# Altium footprint library Andy_Parts.PcbLib: 121 footprints (part 6 of 8)
Each footprint in its own frame and in the unit in brackets; x right, y up, seen from the top. Pads: shape width x height; smd on the part's side, far side on the other; paste and mask are expansions set on the pad; w line width, h text height; cw(c..) or ccw(c..) is an arc to the next point about the centre after c.
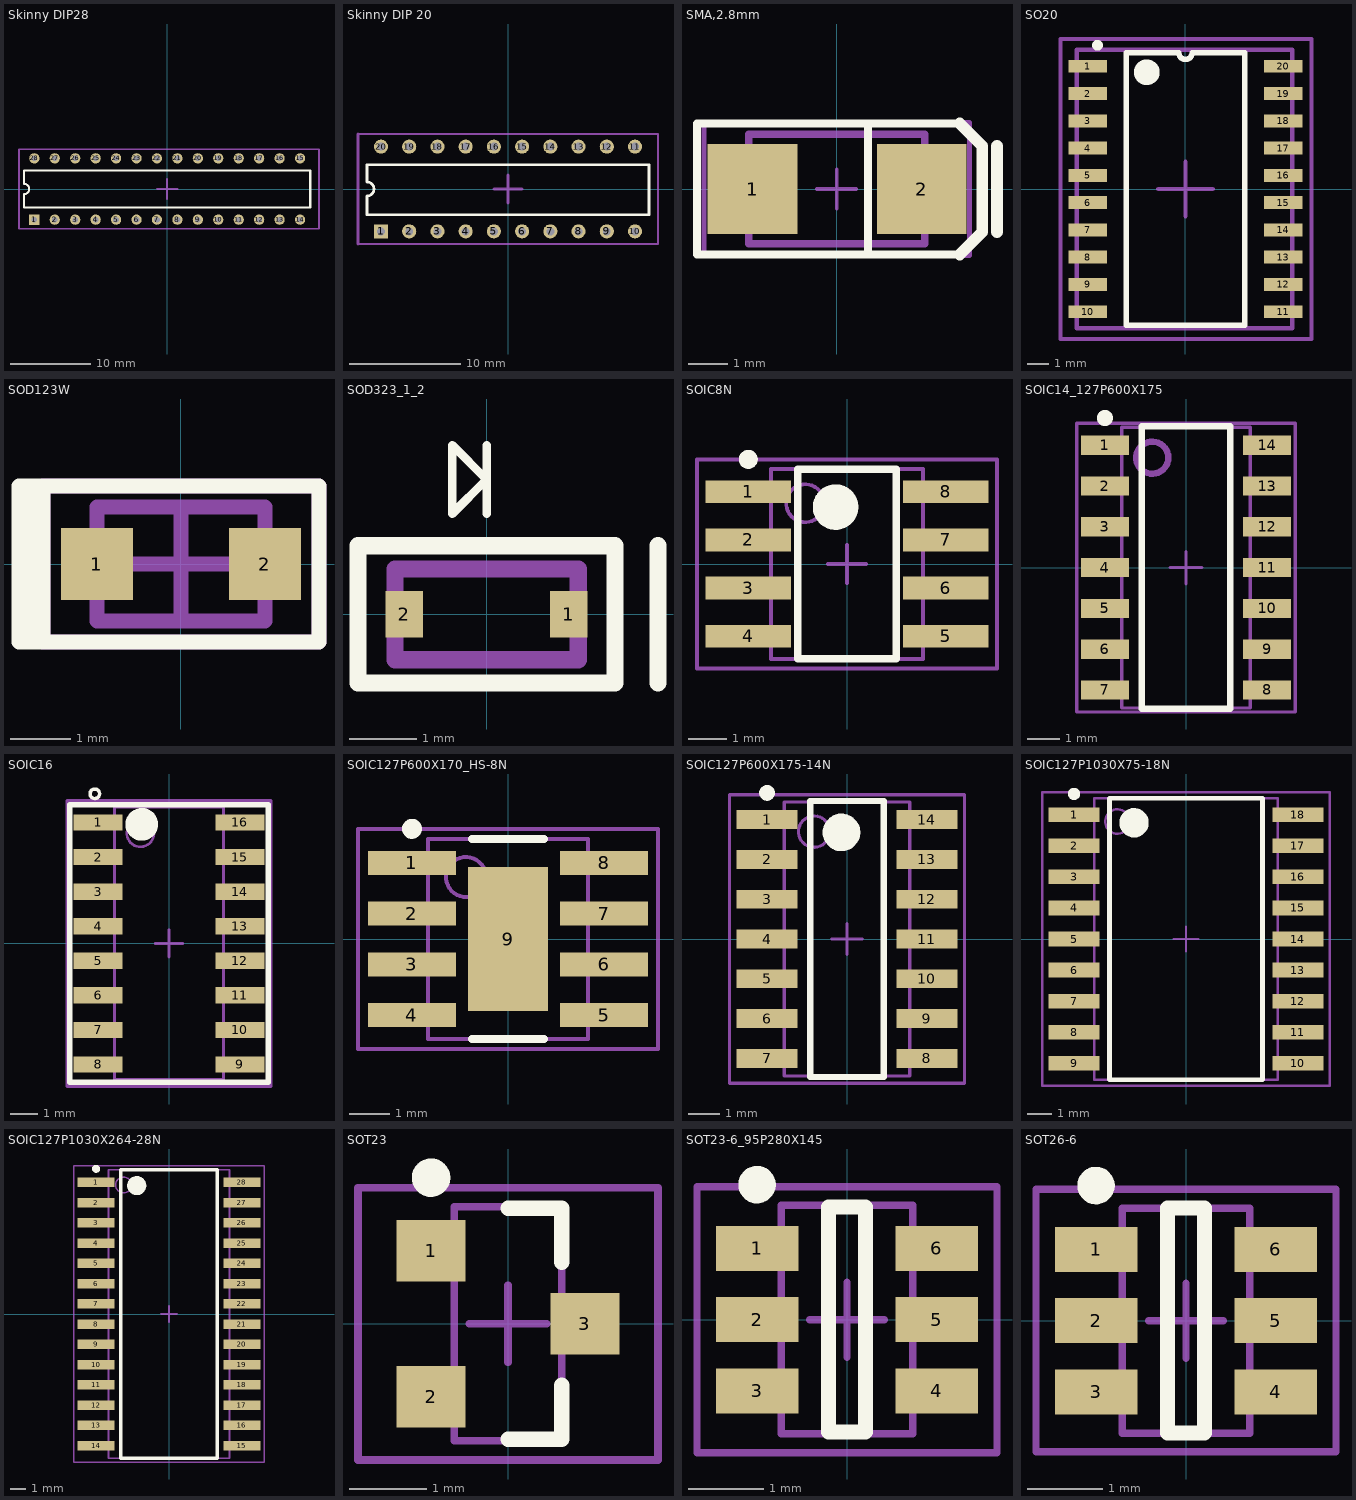
[diagram p5: the footprints below, top view; thin cyan lines are the x and y axes]

## Skinny DIP28 [mil] "Skinny DIP, 28 pins"
height 140
pads (28):
  rect 50x50 hole 28: 1(-650,-150)
  round 50 hole 28: 2(-550,-150) 3(-450,-150) 4(-350,-150) 5(-250,-150) 6(-150,-150) 7(-50,-150) 8(50,-150) 9(150,-150) 10(250,-150) 11(350,-150) 12(450,-150) 13(550,-150) 14(650,-150) 15(650,150) 16(550,150) 17(450,150) 18(350,150) 19(250,150) 20(150,150) 21(50,150) 22(-50,150) 23(-150,150) 24(-250,150) 25(-350,150) 26(-450,150) 27(-550,150) 28(-650,150)
Top Overlay:
  lines w10: -700,-90 -700,-25 ccw(c-700,0) -700,25 -700,90 700,90 700,-90 -700,-90
Mechanical 1:
  text ".Designator" at -95,-10 h25
Mechanical 15:
  lines w7.87: -725,-195 742.72,-195 742.72,195 -725,195 -725,-25 -725,-195
  lines w10: -50,0 0,0 ; 0,-50 0,0 ; 0,50 0,0 ; 50,0 0,0
3D body: height 140, standoff 15, extent -699.21,-89.96 700.39,90.16

## Skinny DIP 20 [mil] "Skinny DIP, 20 pins"
height 140
pads (20):
  rect 50x50 hole 28: 1(-450,-150)
  round 50 hole 28: 2(-350,-150) 3(-250,-150) 4(-150,-150) 5(-50,-150) 6(50,-150) 7(150,-150) 8(250,-150) 9(350,-150) 10(450,-150) 11(450,150) 12(350,150) 13(250,150) 14(150,150) 15(50,150) 16(-50,150) 17(-150,150) 18(-250,150) 19(-350,150) 20(-450,150)
Top Overlay:
  lines w10: -500,-90.94 500,-90.94 500,86.22 -500,86.22 -500,25 cw(c-500,0) -500,-25 -500,-90.94
Mechanical 1:
  text ".Designator" at -52.87,-12.36 h25
Mechanical 15:
  lines w7.87: -531.5,-195 531.5,-195 531.5,195 -531.5,195
  lines w10: -531.5,-195 -531.5,195 ; -50,0 0,0 ; 0,-50 0,0 ; 0,50 0,0 ; 50,0 0,0
3D body: height 140, standoff 15, extent -499.61,-92.32 494.88,87.8

## SMA,2.8mm [mm] "DO-214AC/SMA"
height 2.3
pads (2):
  rect 2.3x2.3 smd: 1(-2.15,0) 2(2.175,0)
Top Overlay:
  lines w0.2: 0.8,-1.675 0.8,1.675 ; 3.15,-1.675 -3.575,-1.675 -3.575,1.675 3.15,1.675
  lines w0.3: 3.15,-1.675 3.725,-1.1 3.725,1.1 3.15,1.675 ; 4.1,-1.1 4.1,1.1
Mechanical 1:
  text ".Designator" at 0,0 h0.64
Mechanical 13:
  lines w0.15: -2.25,-0.85 -2.8,-0.85 -2.8,0.85 -2.25,0.85 ; 2.25,-0.85 2.8,-0.85 2.8,0.85 2.25,0.85 ; 2.25,-0.5 cw(c2.25,0) 2.25,0.5 2.25,-0.5
  lines w0.2: 0.8,-1.4 0.8,1.4 ; 2.249,-1.4 -2.25,-1.4 -2.25,1.4 2.249,1.4 ; 2.25,-1.399 2.25,-0.5 ; 2.25,0.5 2.25,1.399
Mechanical 15:
  lines w0.1: -0.5,0 0.5,0 ; 0,-0.5 0,0.5
  lines w0.127: -3.4,-1.7 -3.4,1.7 3.4,1.7 3.4,-1.7 -3.4,-1.7
3D body: height 2.39, standoff -0.02, extent -2.6,-1.3 2.6,1.3

## SO20 [mm] "300 mil wide SOIC, 20 pins"
height 2.718
pads (20):
  rect 1.8x0.6 smd: 1(-4.547,5.715) 2(-4.547,4.445) 3(-4.547,3.175) 4(-4.547,1.905) 5(-4.547,0.635) 6(-4.547,-0.635) 7(-4.547,-1.905) 8(-4.547,-3.175) 9(-4.547,-4.445) 10(-4.547,-5.715) 11(4.548,-5.715) 12(4.548,-4.445) 13(4.548,-3.175) 14(4.548,-1.905) 15(4.548,-0.635) 16(4.548,0.635) 17(4.548,1.905) 18(4.548,3.175) 19(4.548,4.445) 20(4.548,5.715)
Top Overlay:
  circle w0.6: c-1.799,5.437 r0.3
  circle w0.25: c-4.099,6.692 r0.125
  lines w0.254: -2.759,-6.35 2.759,-6.35 2.759,6.35 0.318,6.35 cw(c0,6.35) -0.318,6.35 -2.759,6.35 -2.759,-6.35
Mechanical 1:
  text ".Designator" at 0.254,-2.159 h0.64
Mechanical 13:
  lines w0.203: -5.055,-6.477 4.978,-6.477 4.978,5.842 4.978,6.477 -5.055,6.477 -5.055,-6.477
Mechanical 15:
  lines w0.203: -1.27,0 0,0 ; 0,-1.27 0,0 ; 0,1.27 0,0 ; 1.27,0 0,0 ; -5.817,-6.985 -5.817,6.985 5.867,6.985 5.867,4.699 5.867,-6.985 -1.499,-6.985 -5.817,-6.985
3D body: height 2.72, standoff 0.3, extent -5.055,-6.477 4.978,6.477

## SOD123W [mm] "Diode SOD123, Gull-wing"
height 1.1
pads (2):
  rect 1.2x1.2 smd: 1(-1.4,0) 2(1.4,0)
Top Overlay:
  lines w0.254: -2.5,-1.3 -2.5,1.3 ; -2.5,-1.3 -2.3,-1.3 ; -2.5,-1.3 -2.7,-1.3 -2.7,1.3 -2.5,1.3 ; -2.5,1.3 -2.3,1.3 ; -2.3,-1.3 0,-1.3 2.3,-1.3 2.3,1.3 0,1.3 -2.3,1.3 ; -2.3,-1.3 -2.3,1.3
Mechanical 1:
  text ".Designator" at -0.9,-0.3 h0.7
Mechanical 13:
  lines w0.254: -1.4,-0.95 -1.4,0.95 1.4,0.95 1.4,-0.95 -1.4,-0.95
Mechanical 15:
  lines w0.254: -0.95,0 0.95,0 ; 0,-0.95 0,0.95 ; -2.3,-1.3 -2.3,0.5 -2.3,1.3 2.3,1.3 2.3,-1.3 -2.3,-1.3
3D body: height 1.1, standoff 0, extent -1.4,-0.95 1.4,0.95

## SOD323_1_2 [mil] "SOD-323"
height 45
pads (2):
  rect 22x27 smd: 1(48,0) 2(-48,0)
Top Overlay:
  lines w5: 0,58.74 0,98.74 ; -20,58.74 0,78.74 -20,98.74 -20,58.74
  lines w10: 100,-40 100,40 ; -75,-40 75,-40 75,40 -75,40 -75,-40
Mechanical 1:
  text ".Designator" at -60,-10 h25
Mechanical 15:
  lines w10: -53.5,-26.5 53.5,-26.5 53.5,26.5 -53.5,26.5 -53.5,-26.5
3D body: height 45, standoff 6, extent -55,-25 55,25

## SOIC8N [mm] "SOIC, 8-Leads, Body 5.0x4.0mm (max), Pitch 1.27mm, IPC Medium Density"
height 1.75
pads (8):
  rect 2.25x0.6 smd: 1(-2.6,1.905) 2(-2.6,0.635) 3(-2.6,-0.635) 4(-2.6,-1.905) 5(2.6,-1.905) 6(2.6,-0.635) 7(2.6,0.635) 8(2.6,1.905)
Top Overlay:
  circle w0.6: c-0.3,1.5 r0.3
  circle w0.25: c-2.6,2.755 r0.125
  lines w0.2: -1.3,-2.5 1.3,-2.5 1.3,2.5 -1.3,2.5 -1.3,-2.5
Mechanical 1:
  text ".Designator" at 0.2,-2.35 h0.64
Mechanical 13:
  circle w0.1: c-1.1,1.6 r0.5
  lines w0.1: -2,-2.5 2,-2.5 2,2.5 -2,2.5 -2,-2.5
Mechanical 15:
  lines w0.1: -0.5,0 0.5,0 ; 0,-0.5 0,0.5 ; -3.95,-2.75 3.95,-2.75 3.95,2.75 -3.95,2.75 -3.95,-2.75
3D body: height 1.75, standoff 0.25, extent -2,-2.5 2,2.5

## SOIC14_127P600X175 [mm] "SOIC, 14-Leads, Body 8.8x4.0mm (max), Pitch 1.27mm, IPC High Density"
height 1.75
pads (14):
  rect 1.5x0.6 smd: 1(-2.525,3.81) 2(-2.525,2.54) 3(-2.525,1.27) 4(-2.525,0) 5(-2.525,-1.27) 6(-2.525,-2.54) 7(-2.525,-3.81) 8(2.525,-3.81) 9(2.525,-2.54) 10(2.525,-1.27) 11(2.525,0) 12(2.525,1.27) 13(2.525,2.54) 14(2.525,3.81)
Top Overlay:
  circle w0.25: c-2.525,4.66 r0.125
  lines w0.2: -1.375,-4.4 1.375,-4.4 1.375,4.4 -1.375,4.4 -1.375,-4.4
Mechanical 1:
  text ".Designator" at 0,0 h1.27
Mechanical 13:
  circle w0.2: c-1.05,3.425 r0.5
  lines w0.1: -2,-4.375 2,-4.375 2,4.375 -2,4.375 -2,-4.375
Mechanical 15:
  lines w0.1: -0.5,0 0.5,0 ; 0,-0.5 0,0.5 ; -3.4,-4.5 3.4,-4.5 3.4,4.5 -3.4,4.5 -3.4,-4.5
3D body: height 1.75, standoff 0, extent -2.9,-4.275 2.9,4.275

## SOIC16 [mm] "SOIC, 16-Leads, Body 10.0x4.0mm (max), Pitch 1.27mm, IPC Medium Density"
height 1.75
pads (16):
  rect 1.8x0.6 smd: 1(-2.6,4.445) 2(-2.6,3.175) 3(-2.6,1.905) 4(-2.6,0.635) 5(-2.6,-0.635) 6(-2.6,-1.905) 7(-2.6,-3.175) 8(-2.6,-4.445) 9(2.6,-4.445) 10(2.6,-3.175) 11(2.6,-1.905) 12(2.6,-0.635) 13(2.6,0.635) 14(2.6,1.905) 15(2.6,3.175) 16(2.6,4.445)
Top Overlay:
  circle w0.6: c-1,4.375 r0.3
  circle w0.127: c-2.725,5.5 r0.175
  lines w0.2: -3.65,-5.1 -3.65,5.1 3.65,5.1 3.65,-5.1 -3.65,-5.1
Mechanical 1:
  text ".Designator" at 0.254,-2.159 h0.64
Mechanical 13:
  circle w0.1: c-1.05,4.05 r0.5
  lines w0.1: -2,-5 -2,5 2,5 2,-5 -2,-5
Mechanical 15:
  lines w0.1: -0.5,0 0.5,0 ; 0,-0.5 0,0.5 ; -3.75,-5.25 -3.75,5.25 3.75,5.25 3.75,-5.25 -3.75,-5.25
3D body: height 1.75, standoff 0.1, extent -2,-5 2,5

## SOIC127P600X170_HS-8N [mm] "SOIC, 8-Leads, Body 5.0x4.0mm (max), Pitch 1.27mm, IPC Medium Density"
height 1.7
pads (9):
  rect 2.2x0.6 smd: 1(-2.4,1.905) 2(-2.4,0.635) 3(-2.4,-0.635) 4(-2.4,-1.905) 5(2.4,-1.905) 6(2.4,-0.635) 7(2.4,0.635) 8(2.4,1.905)
  rect 2x3.6 smd: 9(0,0)
Top Overlay:
  circle w0.25: c-2.4,2.755 r0.125
  lines w0.2: -0.9,-2.5 0.9,-2.5 ; -0.9,2.5 0.9,2.5
Mechanical 13:
  circle w0.1: c-1.05,1.55 r0.5
  lines w0.1: -2,-2.5 2,-2.5 2,2.5 -2,2.5 -2,-2.5
Mechanical 15:
  lines w0.1: -0.5,0 0.5,0 ; 0,-0.5 0,0.5 ; -3.75,-2.75 3.75,-2.75 3.75,2.75 -3.75,2.75 -3.75,-2.75
3D body: height 1.7, standoff 0.1, extent -2,-2.5 2,2.5

## SOIC127P600X175-14N [mm] "SOIC, 14-Leads, Body 8.8x4.0mm (max), Pitch 1.27mm, IPC Medium Density"
height 1.75
pads (14):
  rect 1.95x0.6 smd: 1(-2.55,3.81) 2(-2.55,2.54) 3(-2.55,1.27) 4(-2.55,0) 5(-2.55,-1.27) 6(-2.55,-2.54) 7(-2.55,-3.81) 8(2.55,-3.81) 9(2.55,-2.54) 10(2.55,-1.27) 11(2.55,0) 12(2.55,1.27) 13(2.55,2.54) 14(2.55,3.81)
Top Overlay:
  circle w0.25: c-2.55,4.66 r0.125
  circle w0.6: c-0.175,3.4 r0.3
  lines w0.2: -1.175,-4.4 -1.175,4.4 1.175,4.4 1.175,-4.4 -1.175,-4.4
Mechanical 1:
  text ".Designator" at -0.75,-0.5 h1.27
Mechanical 13:
  circle w0.1: c-1.05,3.425 r0.5
  lines w0.1: -2,-4.375 -2,4.375 2,4.375 2,-4.375 -2,-4.375
Mechanical 15:
  lines w0.1: -0.5,0 0.5,0 ; 0,-0.5 0,0.5 ; -3.75,-4.6 -3.75,4.6 3.75,4.6 3.75,-4.6 -3.75,-4.6
3D body: height 1.75, standoff 0.1, extent -2,-4.375 2,4.375

## SOIC127P1030X75-18N [mm] "SOIC, 18-Leads, Body 11.5x7.5mm (max), Pitch 1.27mm, IPC Medium Density"
height 0.75
pads (18):
  rect 2.1x0.6 smd: 1(-4.575,5.08) 2(-4.575,3.81) 3(-4.575,2.54) 4(-4.575,1.27) 5(-4.575,0) 6(-4.575,-1.27) 7(-4.575,-2.54) 8(-4.575,-3.81) 9(-4.575,-5.08) 10(4.575,-5.08) 11(4.575,-3.81) 12(4.575,-2.54) 13(4.575,-1.27) 14(4.575,0) 15(4.575,1.27) 16(4.575,2.54) 17(4.575,3.81) 18(4.575,5.08)
Top Overlay:
  circle w0.25: c-4.575,5.93 r0.125
  circle w0.6: c-2.125,4.75 r0.3
  lines w0.2: -3.125,-5.75 -3.125,5.75 3.125,5.75 3.125,-5.75 -3.125,-5.75
Mechanical 1:
  text ".Designator" at -1.75,-0.5 h2.54
Mechanical 13:
  circle w0.1: c-2.8,4.8 r0.5
  lines w0.1: -3.75,-5.75 -3.75,5.75 3.75,5.75 3.75,-5.75 -3.75,-5.75
Mechanical 15:
  lines w0.1: -0.5,0 0.5,0 ; 0,-0.5 0,0.5 ; -5.875,-6 -5.875,6 5.875,6 5.875,-6 -5.875,-6
3D body: height 0.75, standoff 0.1, extent -3.75,-5.75 3.75,5.75

## SOIC127P1030X264-28N [mm] "SOIC, 28-Leads, Body 18.1x7.6mm (max), Pitch 1.27mm, IPC Medium Density"
height 2.64
pads (28):
  rect 2.3x0.6 smd: 1(-4.575,8.255) 2(-4.575,6.985) 3(-4.575,5.715) 4(-4.575,4.445) 5(-4.575,3.175) 6(-4.575,1.905) 7(-4.575,0.635) 8(-4.575,-0.635) 9(-4.575,-1.905) 10(-4.575,-3.175) 11(-4.575,-4.445) 12(-4.575,-5.715) 13(-4.575,-6.985) 14(-4.575,-8.255) 15(4.575,-8.255) 16(4.575,-6.985) 17(4.575,-5.715) 18(4.575,-4.445) 19(4.575,-3.175) 20(4.575,-1.905) 21(4.575,-0.635) 22(4.575,0.635) 23(4.575,1.905) 24(4.575,3.175) 25(4.575,4.445) 26(4.575,5.715) 27(4.575,6.985) 28(4.575,8.255)
Top Overlay:
  circle w0.25: c-4.575,9.105 r0.125
  circle w0.6: c-2.025,8.05 r0.3
  lines w0.2: -3.025,-9.05 -3.025,9.05 3.025,9.05 3.025,-9.05 -3.025,-9.05
Mechanical 1:
  text ".Designator" at -1.25,-0.25 h2
Mechanical 13:
  circle w0.1: c-2.845,8.09 r0.5
  lines w0.1: -3.795,-9.04 -3.795,9.04 3.795,9.04 3.795,-9.04 -3.795,-9.04
Mechanical 15:
  lines w0.1: -0.5,0 0.5,0 ; 0,-0.5 0,0.5 ; -5.975,-9.3 -5.975,9.3 5.975,9.3 5.975,-9.3 -5.975,-9.3
3D body: height 2.64, standoff 0.1, extent -3.795,-9.04 3.795,9.04

## SOT23 [mm] "SOT23, 3-Leads, Body 3.0x2.6mm, Pitch 0.95mm"
height 1.8
pads (3):
  rect 0.9x0.8 smd: 1(-1,0.95) 2(-1,-0.95) 3(1,0)
Top Overlay:
  circle w0.25: c-1,1.9 r0.125
  lines w0.2: 0,-1.5 0.7,-1.5 0.7,-0.8 ; 0,1.5 0.7,1.5 0.7,0.8
Mechanical 1:
  text ".Designator" at 0.254,-1.651 h0.64
Mechanical 13:
  lines w0.1: -0.7,-1.52 -0.7,1.52 0.7,1.52 0.7,-1.52 -0.7,-1.52
Mechanical 15:
  lines w0.1: -0.5,0 0.5,0 ; 0,-0.5 0,0.5 ; -1.95,-1.77 -1.95,1.77 1.95,1.77 1.95,-1.77 -1.95,-1.77
3D body: height 1.11, standoff 0.1, extent -0.7,-1.52 0.7,1.52

## SOT23-6_95P280X145 [mm] "SOT23, 6-Leads, Body 3.0x3.0mm (max), Pitch 0.95mm, IPC Medium Density"
height 1.45
pads (6):
  rect 1.1x0.6 smd: 1(-1.2,0.95) 2(-1.2,0) 3(-1.2,-0.95) 4(1.2,-0.95) 5(1.2,0) 6(1.2,0.95)
Top Overlay:
  circle w0.25: c-1.2,1.8 r0.125
  lines w0.2: -0.25,-1.5 -0.25,1.5 0.25,1.5 0.25,-1.5 -0.25,-1.5
Mechanical 1:
  text ".Designator" at 0,0 h1.27
Mechanical 13:
  lines w0.1: -0.875,-1.525 0.875,-1.525 0.875,1.525 -0.875,1.525 -0.875,-1.525
Mechanical 15:
  lines w0.1: -0.5,0 0.5,0 ; 0,-0.5 0,0.5 ; -2,-1.775 2,-1.775 2,1.775 -2,1.775 -2,-1.775
3D body: height 1.09, standoff 0, extent -1.219,-1.397 1.206,1.397
3D body: height 1.45, standoff 0.15, extent -0.875,-1.525 0.875,1.525

## SOT26-6 [mm] "SOT23, 6-Leads, Body 3.0x3.0mm (max), Pitch 0.95mm, IPC Medium Density"
height 1.35
pads (6):
  rect 1.1x0.6 smd: 1(-1.2,0.95) 2(-1.2,0) 3(-1.2,-0.95) 4(1.2,-0.95) 5(1.2,0) 6(1.2,0.95)
Top Overlay:
  circle w0.25: c-1.2,1.8 r0.125
  lines w0.2: -0.25,-1.5 -0.25,1.5 0.25,1.5 0.25,-1.5 -0.25,-1.5
Mechanical 1:
  text ".Designator" at -0.25,1 h0.75
Mechanical 13:
  lines w0.1: -0.85,-1.5 0.85,-1.5 0.85,1.5 -0.85,1.5 -0.85,-1.5
Mechanical 15:
  lines w0.1: -0.5,0 0.5,0 ; 0,-0.5 0,0.5 ; -2,-1.75 2,-1.75 2,1.75 -2,1.75 -2,-1.75
3D body: height 1.35, standoff 0.05, extent -0.85,-1.5 0.85,1.5